# Altium schematic symbol library kmilo17pet-TI_MSP430.SchLib: 1463 symbols (part 4 of 130)
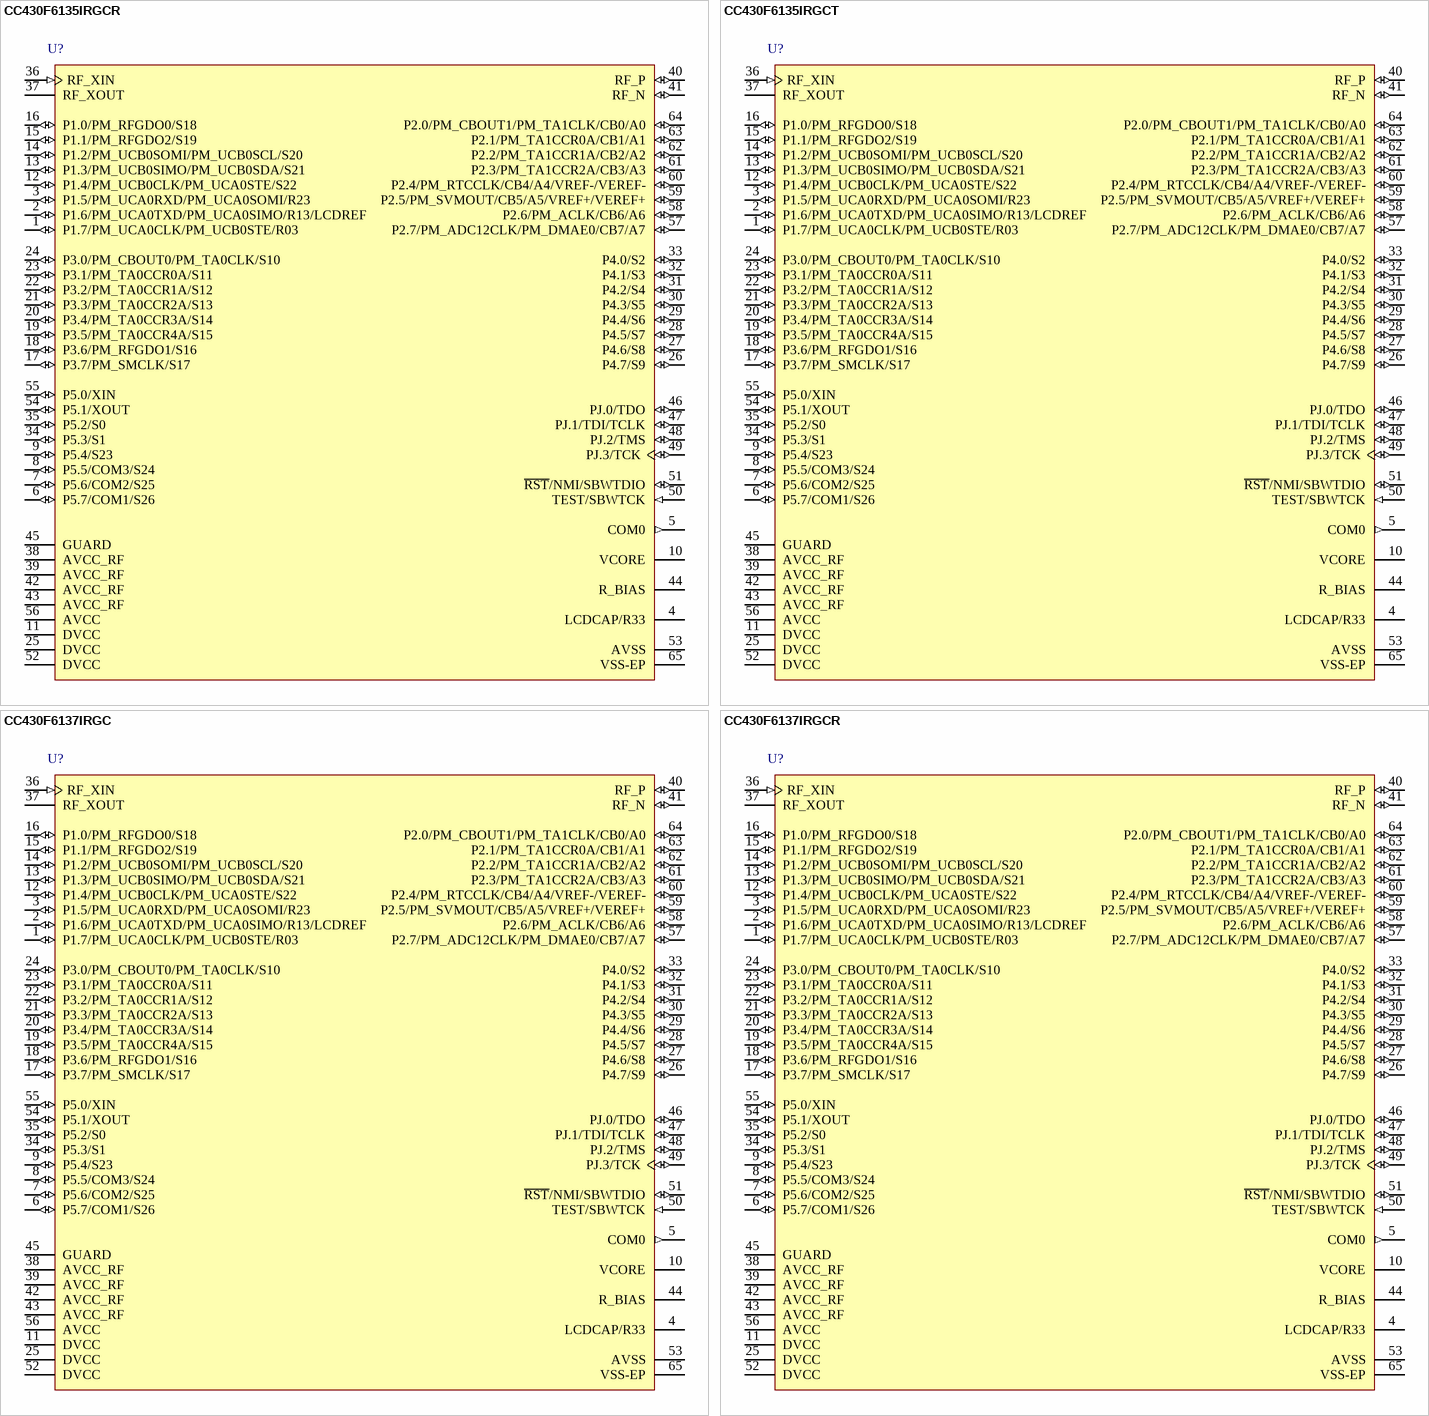
[diagram p338: symbols CC430F6135IRGCR to CC430F6137IRGCR]

## CC430F6137IRGCR
designator U?
20 MHz MSP430 SoC with RF Core with 32 KB Flash, 2048 B SRAM and 44 GPIOs, -40 to 85 degC, 64-pin QFN (RGC), Green (RoHS & no Sb/Br); Manufacturer: Texas Instruments; PartNumber: CC430F6137IRGCR; ADC: Yes; ADC Channels: 8; DMA: 3; Flash(KB): 32; Frequency(MHz): 20; GPIO: 44; LCD Segments: 96; Multiplier: 32x32; SRAM(B): 4096; SubFamily: RF SoC Series; Timers - 16-bit: 2; USCI_A (UART/LIN/IrDA/SPI): 1; DatasheetVersion: SLAS554F; PackageVersion: 4204106/F; PackageReference: RGC64; PackageDescription: 64-Pin Plastic Flat Pack, Body 9 x 9 mm, Pitch 0.5 mm; Supplier 1: Digi-Key; Supplier Part Number 1: 296-25822-2-ND; Supplier 2: Digi-Key; Supplier Part Number 2: 296-25822-1-ND; Supplier 3: Digi-Key; Supplier Part Number 3: 296-25822-6-ND; Supplier 4: Newark; Supplier Part Number 4: 68R5922; Supplier 5: Mouser; Supplier Part Number 5: 595-CC430F6137IRGCR; Brown Out Reset: Yes; Comparators: Yes; Eco-Plan: Green (RoHS & no Sb/Br); Real-Time Clock: Yes; SVS: Yes; Temp Sensor: Yes; USCI_B (I2C & SPI): 1; Watchdog: Yes; Mounting Technology: Surface Mount; ComponentLink1Description: Manufacturer URL; ComponentLink1URL: http://www.ti.com/; ComponentLink2Description: Datasheet; ComponentLink2URL: http://www.ti.com/general/docs/lit/getliterature.tsp?genericPartNumber=CC430F6137&fileType=pdf; ComponentLink3Description: Package Specification; ComponentLink3URL: http://www.ti.com/lit/ds/symlink/ucd3138.pdf
footprint TI-RGC64-4250X4250TP_N (QFN, 64-Leads, Body 9x9mm, Pitch 0.5mm, Thermal Pad 4.25x4.25mm, IPC Medium Density)
pins: 1 P1.7/PM_UCA0CLK/PM_UCB0STE/R03 (io), 2 P1.6/PM_UCA0TXD/PM_UCA0SIMO/R13/LCDREF (io), 3 P1.5/PM_UCA0RXD/PM_UCA0SOMI/R23 (io), 4 LCDCAP/R33, 5 COM0 (out) "LCD common output COM0 for LCD backplane", 6 P5.7/COM1/S26 (io), 7 P5.6/COM2/S25 (io), 8 P5.5/COM3/S24 (io), 9 P5.4/S23 (io), 10 VCORE "Regulated core power supply", 11 DVCC (power) "Digital power supply", 12 P1.4/PM_UCB0CLK/PM_UCA0STE/S22 (io), 13 P1.3/PM_UCB0SIMO/PM_UCB0SDA/S21 (io), 14 P1.2/PM_UCB0SOMI/PM_UCB0SCL/S20 (io), 15 P1.1/PM_RFGDO2/S19 (io), 16 P1.0/PM_RFGDO0/S18 (io), 17 P3.7/PM_SMCLK/S17 (io), 18 P3.6/PM_RFGDO1/S16 (io), 19 P3.5/PM_TA0CCR4A/S15 (io), 20 P3.4/PM_TA0CCR3A/S14 (io), 21 P3.3/PM_TA0CCR2A/S13 (io), 22 P3.2/PM_TA0CCR1A/S12 (io), 23 P3.1/PM_TA0CCR0A/S11 (io), 24 P3.0/PM_CBOUT0/PM_TA0CLK/S10 (io), 25 DVCC (power) "Digital power supply", 26 P4.7/S9 (io), 27 P4.6/S8 (io), 28 P4.5/S7 (io), 29 P4.4/S6 (io), 30 P4.3/S5 (io), 31 P4.2/S4 (io), 32 P4.1/S3 (io), 33 P4.0/S2 (io), 34 P5.3/S1 (io), 35 P5.2/S0 (io), 36 RF_XIN (in) "Input terminal for RF crystal oscillator, or external clock input", 37 RF_XOUT "Output terminal for RF crystal oscillator", 38 AVCC_RF (power) "Radio analog power supply", 39 AVCC_RF (power) "Radio analog power supply", 40 RF_P (io) "Positive RF input to LNA in receive mode Positive RF output from PA in transmit mode", 41 RF_N (io) "Negative RF input to LNA in receive mode Negative RF output from PA in transmit mode", 42 AVCC_RF (power) "Radio analog power supply", 43 AVCC_RF (power) "Radio analog power supply", 44 R_BIAS "External bias resistor for radio reference current", 45 GUARD (power) "Power supply connection for digital noise isolation", 46 PJ.0/TDO (io), 47 PJ.1/TDI/TCLK (io), 48 PJ.2/TMS (io), 49 PJ.3/TCK (io), 50 TEST/SBWTCK (in), 51 ~{RST}/NMI/SBWTDIO (io), 52 DVCC (power) "Digital power supply", 53 AVSS "Analog ground supply for ADC12", 54 P5.1/XOUT (io), 55 P5.0/XIN (io), 56 AVCC (power) "Analog power supply", 57 P2.7/PM_ADC12CLK/PM_DMAE0/CB7/A7 (io), 58 P2.6/PM_ACLK/CB6/A6 (io), 59 P2.5/PM_SVMOUT/CB5/A5/VREF+/VEREF+ (io), 60 P2.4/PM_RTCCLK/CB4/A4/VREF-/VEREF- (io), 61 P2.3/PM_TA1CCR2A/CB3/A3 (io), 62 P2.2/PM_TA1CCR1A/CB2/A2 (io), 63 P2.1/PM_TA1CCR0A/CB1/A1 (io), 64 P2.0/PM_CBOUT1/PM_TA1CLK/CB0/A0 (io), 65 VSS-EP "Ground supply The exposed die attach pad must be connected to a solid ground plane as this is the ground connection for the chip."

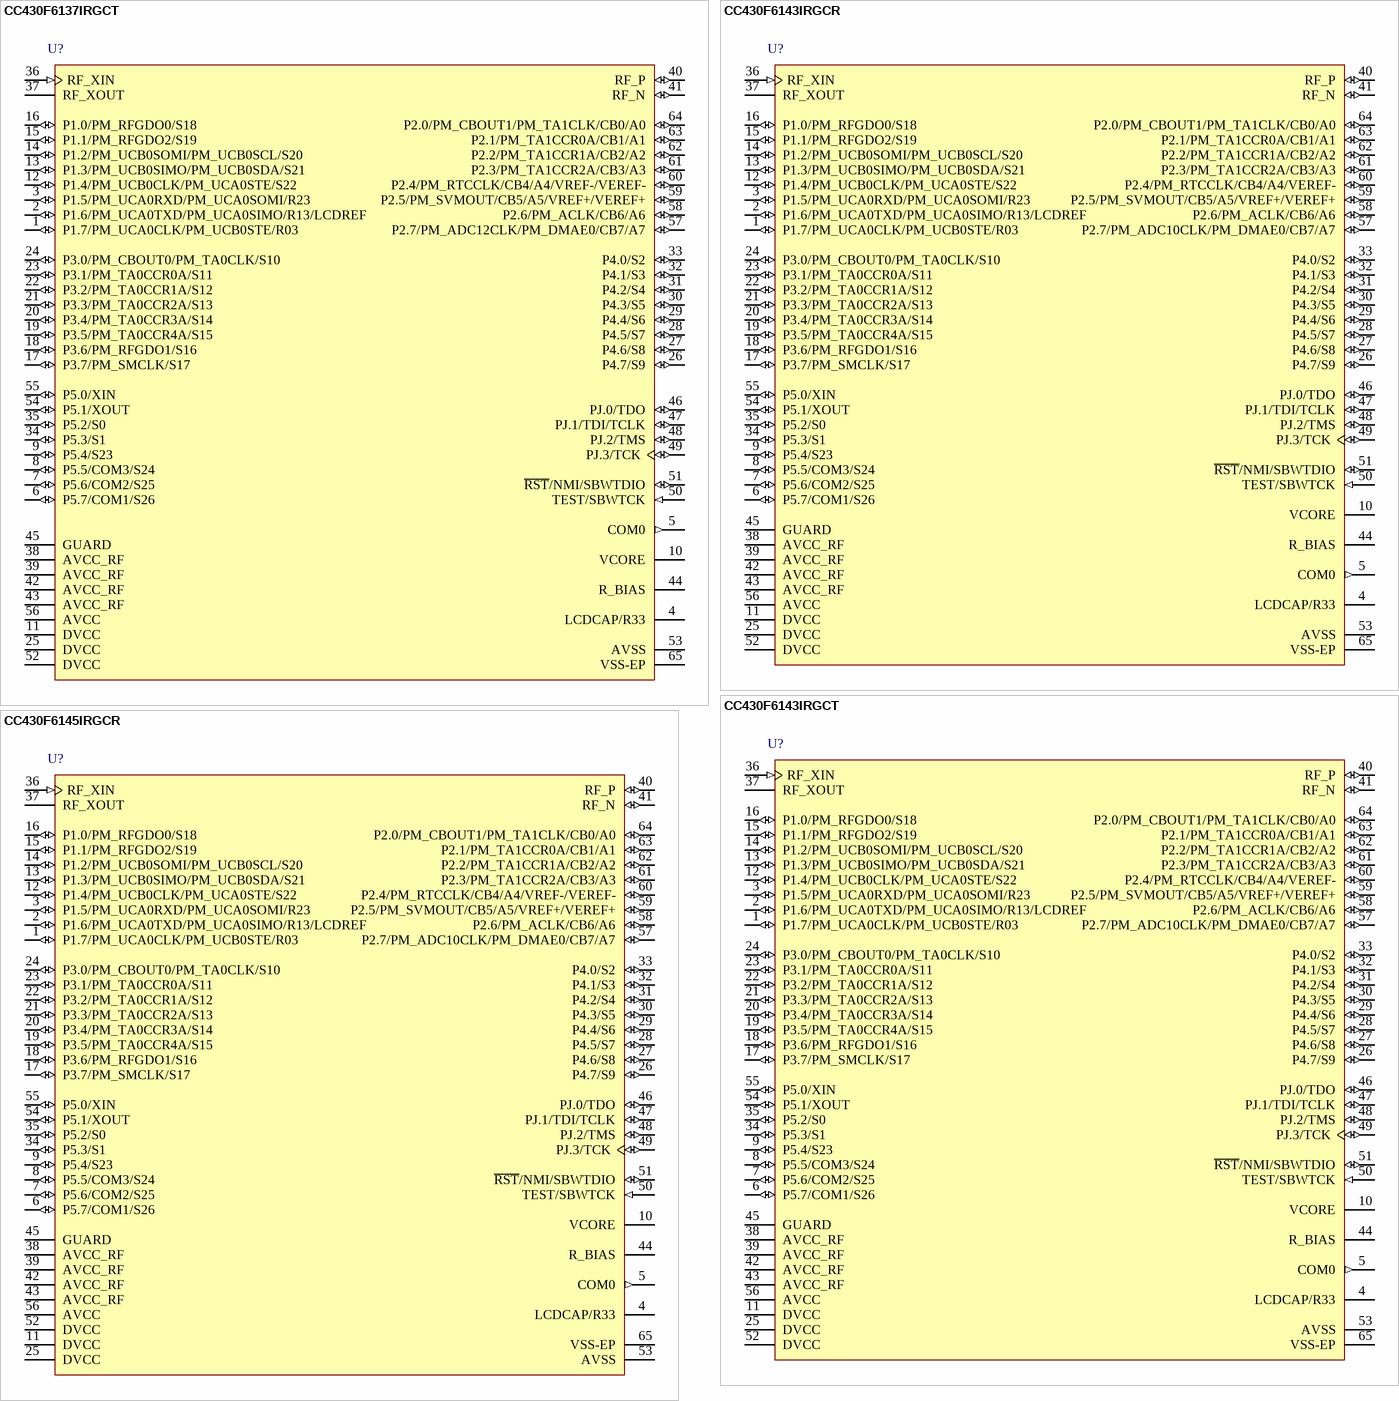
[diagram p8: symbols CC430F6137IRGCT to CC430F6145IRGCR]

## CC430F6137IRGCT
designator U?
20 MHz MSP430 SoC with RF Core with 32 KB Flash, 2048 B SRAM and 44 GPIOs, -40 to 85 degC, 64-pin QFN (RGC), Green (RoHS & no Sb/Br); Manufacturer: Texas Instruments; PartNumber: CC430F6137IRGCT; ADC: Yes; ADC Channels: 8; DMA: 3; Flash(KB): 32; Frequency(MHz): 20; GPIO: 44; LCD Segments: 96; Multiplier: 32x32; SRAM(B): 4096; SubFamily: RF SoC Series; Timers - 16-bit: 2; USCI_A (UART/LIN/IrDA/SPI): 1; DatasheetVersion: SLAS554F; PackageVersion: 4204106/F; PackageReference: RGC64; PackageDescription: 64-Pin Plastic Flat Pack, Body 9 x 9 mm, Pitch 0.5 mm; Supplier 1: Digi-Key; Supplier Part Number 1: 296-25823-2-ND; Supplier 2: Digi-Key; Supplier Part Number 2: 296-25823-1-ND; Supplier 3: Digi-Key; Supplier Part Number 3: 296-25823-6-ND; Supplier 4: Mouser; Supplier Part Number 4: 595-CC430F6137IRGCT; Brown Out Reset: Yes; Comparators: Yes; Eco-Plan: Green (RoHS & no Sb/Br); Real-Time Clock: Yes; SVS: Yes; Temp Sensor: Yes; USCI_B (I2C & SPI): 1; Watchdog: Yes; Mounting Technology: Surface Mount; ComponentLink1Description: Manufacturer URL; ComponentLink1URL: http://www.ti.com/; ComponentLink2Description: Datasheet; ComponentLink2URL: http://www.ti.com/general/docs/lit/getliterature.tsp?genericPartNumber=CC430F6137&fileType=pdf; ComponentLink3Description: Package Specification; ComponentLink3URL: http://www.ti.com/lit/ds/symlink/ucd3138.pdf
footprint TI-RGC64-4250X4250TP_N (QFN, 64-Leads, Body 9x9mm, Pitch 0.5mm, Thermal Pad 4.25x4.25mm, IPC Medium Density)
pins: 1 P1.7/PM_UCA0CLK/PM_UCB0STE/R03 (io), 2 P1.6/PM_UCA0TXD/PM_UCA0SIMO/R13/LCDREF (io), 3 P1.5/PM_UCA0RXD/PM_UCA0SOMI/R23 (io), 4 LCDCAP/R33, 5 COM0 (out) "LCD common output COM0 for LCD backplane", 6 P5.7/COM1/S26 (io), 7 P5.6/COM2/S25 (io), 8 P5.5/COM3/S24 (io), 9 P5.4/S23 (io), 10 VCORE "Regulated core power supply", 11 DVCC (power) "Digital power supply", 12 P1.4/PM_UCB0CLK/PM_UCA0STE/S22 (io), 13 P1.3/PM_UCB0SIMO/PM_UCB0SDA/S21 (io), 14 P1.2/PM_UCB0SOMI/PM_UCB0SCL/S20 (io), 15 P1.1/PM_RFGDO2/S19 (io), 16 P1.0/PM_RFGDO0/S18 (io), 17 P3.7/PM_SMCLK/S17 (io), 18 P3.6/PM_RFGDO1/S16 (io), 19 P3.5/PM_TA0CCR4A/S15 (io), 20 P3.4/PM_TA0CCR3A/S14 (io), 21 P3.3/PM_TA0CCR2A/S13 (io), 22 P3.2/PM_TA0CCR1A/S12 (io), 23 P3.1/PM_TA0CCR0A/S11 (io), 24 P3.0/PM_CBOUT0/PM_TA0CLK/S10 (io), 25 DVCC (power) "Digital power supply", 26 P4.7/S9 (io), 27 P4.6/S8 (io), 28 P4.5/S7 (io), 29 P4.4/S6 (io), 30 P4.3/S5 (io), 31 P4.2/S4 (io), 32 P4.1/S3 (io), 33 P4.0/S2 (io), 34 P5.3/S1 (io), 35 P5.2/S0 (io), 36 RF_XIN (in) "Input terminal for RF crystal oscillator, or external clock input", 37 RF_XOUT "Output terminal for RF crystal oscillator", 38 AVCC_RF (power) "Radio analog power supply", 39 AVCC_RF (power) "Radio analog power supply", 40 RF_P (io) "Positive RF input to LNA in receive mode Positive RF output from PA in transmit mode", 41 RF_N (io) "Negative RF input to LNA in receive mode Negative RF output from PA in transmit mode", 42 AVCC_RF (power) "Radio analog power supply", 43 AVCC_RF (power) "Radio analog power supply", 44 R_BIAS "External bias resistor for radio reference current", 45 GUARD (power) "Power supply connection for digital noise isolation", 46 PJ.0/TDO (io), 47 PJ.1/TDI/TCLK (io), 48 PJ.2/TMS (io), 49 PJ.3/TCK (io), 50 TEST/SBWTCK (in), 51 ~{RST}/NMI/SBWTDIO (io), 52 DVCC (power) "Digital power supply", 53 AVSS "Analog ground supply for ADC12", 54 P5.1/XOUT (io), 55 P5.0/XIN (io), 56 AVCC (power) "Analog power supply", 57 P2.7/PM_ADC12CLK/PM_DMAE0/CB7/A7 (io), 58 P2.6/PM_ACLK/CB6/A6 (io), 59 P2.5/PM_SVMOUT/CB5/A5/VREF+/VEREF+ (io), 60 P2.4/PM_RTCCLK/CB4/A4/VREF-/VEREF- (io), 61 P2.3/PM_TA1CCR2A/CB3/A3 (io), 62 P2.2/PM_TA1CCR1A/CB2/A2 (io), 63 P2.1/PM_TA1CCR0A/CB1/A1 (io), 64 P2.0/PM_CBOUT1/PM_TA1CLK/CB0/A0 (io), 65 VSS-EP "Ground supply The exposed die attach pad must be connected to a solid ground plane as this is the ground connection for the chip."

## CC430F6143IRGCR
designator U?
20 MHz MSP430 SoC with RF Core with 8 KB Flash, 2048 B SRAM and 44 GPIOs, -40 to 85 degC, 64-pin QFN (RGZ), Green (RoHS & no Sb/Br); Manufacturer: Texas Instruments; PartNumber: CC430F6143IRGCR; ADC: Yes; ADC Channels: 8; DMA: 3; Frequency(MHz): 20; GPIO: 44; LCD Segments: 96; Multiplier: 32x32; SRAM(B): 2048; SubFamily: RF SoC Series; Timers - 16-bit: 2; USCI_A (UART/LIN/IrDA/SPI): 1; DatasheetVersion: SLAS555; PackageVersion: 4204106/F; PackageReference: RGC64; PackageDescription: 64-Pin Plastic Flat Pack, Body 9 x 9 mm, Pitch 0.5 mm; Supplier 1: Digi-Key; Supplier Part Number 1: CC430F6143IRGCR-ND; Supplier 2: Newark; Supplier Part Number 2: 27W9346; Supplier 3: Mouser; Supplier Part Number 3: 595-CC430F6143IRGCR; Brown Out Reset: Yes; Comparators: Yes; Eco-Plan: Green (RoHS & no Sb/Br); Flash(KB): 8; Real-Time Clock: Yes; SVS: Yes; Temp Sensor: Yes; USCI_B (I2C & SPI): 1; Watchdog: Yes; Mounting Technology: Surface Mount; ComponentLink1Description: Manufacturer URL; ComponentLink1URL: http://www.ti.com/; ComponentLink2Description: Datasheet; ComponentLink2URL: http://www.ti.com/lit/ds/symlink/cc430f6143.pdf; ComponentLink3Description: Package Specification; ComponentLink3URL: http://www.ti.com/lit/ds/symlink/ucd3138.pdf
footprint TI-RGC64-4250X4250TP_N (QFN, 64-Leads, Body 9x9mm, Pitch 0.5mm, Thermal Pad 4.25x4.25mm, IPC Medium Density)
pins: 1 P1.7/PM_UCA0CLK/PM_UCB0STE/R03 (io), 2 P1.6/PM_UCA0TXD/PM_UCA0SIMO/R13/LCDREF (io), 3 P1.5/PM_UCA0RXD/PM_UCA0SOMI/R23 (io), 4 LCDCAP/R33, 5 COM0 (out) "LCD common output COM0 for LCD backplane", 6 P5.7/COM1/S26 (io), 7 P5.6/COM2/S25 (io), 8 P5.5/COM3/S24 (io), 9 P5.4/S23 (io), 10 VCORE "Regulated core power supply", 11 DVCC (power) "Digital power supply", 12 P1.4/PM_UCB0CLK/PM_UCA0STE/S22 (io), 13 P1.3/PM_UCB0SIMO/PM_UCB0SDA/S21 (io), 14 P1.2/PM_UCB0SOMI/PM_UCB0SCL/S20 (io), 15 P1.1/PM_RFGDO2/S19 (io), 16 P1.0/PM_RFGDO0/S18 (io), 17 P3.7/PM_SMCLK/S17 (io), 18 P3.6/PM_RFGDO1/S16 (io), 19 P3.5/PM_TA0CCR4A/S15 (io), 20 P3.4/PM_TA0CCR3A/S14 (io), 21 P3.3/PM_TA0CCR2A/S13 (io), 22 P3.2/PM_TA0CCR1A/S12 (io), 23 P3.1/PM_TA0CCR0A/S11 (io), 24 P3.0/PM_CBOUT0/PM_TA0CLK/S10 (io), 25 DVCC (power) "Digital power supply", 26 P4.7/S9 (io), 27 P4.6/S8 (io), 28 P4.5/S7 (io), 29 P4.4/S6 (io), 30 P4.3/S5 (io), 31 P4.2/S4 (io), 32 P4.1/S3 (io), 33 P4.0/S2 (io), 34 P5.3/S1 (io), 35 P5.2/S0 (io), 36 RF_XIN (in) "Input terminal for RF crystal oscillator or external clock input", 37 RF_XOUT "Output terminal for RF crystal oscillator", 38 AVCC_RF (power) "Radio analog power supply", 39 AVCC_RF (power) "Radio analog power supply", 40 RF_P (io) "Positive RF input to LNA in receive mode.Positive RF output from PA in transmit mode.", 41 RF_N (io) "Negative RF input to LNA in receive mode.Negative RF output from PA in transmit mode.", 42 AVCC_RF (power) "Radio analog power supply", 43 AVCC_RF (power) "Radio analog power supply", 44 R_BIAS "External bias resistor for radio reference current", 45 GUARD (power) "Power supply connection for digital noise isolation", 46 PJ.0/TDO (io), 47 PJ.1/TDI/TCLK (io), 48 PJ.2/TMS (io), 49 PJ.3/TCK (io), 50 TEST/SBWTCK (in), 51 ~{RST}/NMI/SBWTDIO (io), 52 DVCC (power) "Digital power supply", 53 AVSS "Analog ground supply for ADC10", 54 P5.1/XOUT (io), 55 P5.0/XIN (io), 56 AVCC (power) "Analog power supply", 57 P2.7/PM_ADC10CLK/PM_DMAE0/CB7/A7 (io), 58 P2.6/PM_ACLK/CB6/A6 (io), 59 P2.5/PM_SVMOUT/CB5/A5/VREF+/VEREF+ (io), 60 P2.4/PM_RTCCLK/CB4/A4/VEREF- (io), 61 P2.3/PM_TA1CCR2A/CB3/A3 (io), 62 P2.2/PM_TA1CCR1A/CB2/A2 (io), 63 P2.1/PM_TA1CCR0A/CB1/A1 (io), 64 P2.0/PM_CBOUT1/PM_TA1CLK/CB0/A0 (io), 65 VSS-EP "Ground supply.The exposed die attach pad must be connected to a solid ground plane as this is the ground connection for the chip."

## CC430F6143IRGCT
designator U?
20 MHz MSP430 SoC with RF Core with 8 KB Flash, 2048 B SRAM and 44 GPIOs, -40 to 85 degC, 64-pin QFN (RGZ), Green (RoHS & no Sb/Br); Manufacturer: Texas Instruments; PartNumber: CC430F6143IRGCT; ADC: Yes; ADC Channels: 8; DMA: 3; Frequency(MHz): 20; GPIO: 44; LCD Segments: 96; Multiplier: 32x32; SRAM(B): 2048; SubFamily: RF SoC Series; Timers - 16-bit: 2; USCI_A (UART/LIN/IrDA/SPI): 1; DatasheetVersion: SLAS555; PackageVersion: 4204106/F; PackageReference: RGC64; PackageDescription: 64-Pin Plastic Flat Pack, Body 9 x 9 mm, Pitch 0.5 mm; Supplier 1: Digi-Key; Supplier Part Number 1: CC430F6143IRGCT-ND; Supplier 2: Newark; Supplier Part Number 2: 27W9347; Supplier 3: Mouser; Supplier Part Number 3: 595-CC430F6143IRGCT; Brown Out Reset: Yes; Comparators: Yes; Eco-Plan: Green (RoHS & no Sb/Br); Flash(KB): 8; Real-Time Clock: Yes; SVS: Yes; Temp Sensor: Yes; USCI_B (I2C & SPI): 1; Watchdog: Yes; Mounting Technology: Surface Mount; ComponentLink1Description: Manufacturer URL; ComponentLink1URL: http://www.ti.com/; ComponentLink2Description: Datasheet; ComponentLink2URL: http://www.ti.com/lit/ds/symlink/cc430f6143.pdf; ComponentLink3Description: Package Specification; ComponentLink3URL: http://www.ti.com/lit/ds/symlink/ucd3138.pdf
footprint TI-RGC64-4250X4250TP_N (QFN, 64-Leads, Body 9x9mm, Pitch 0.5mm, Thermal Pad 4.25x4.25mm, IPC Medium Density)
pins: 1 P1.7/PM_UCA0CLK/PM_UCB0STE/R03 (io), 2 P1.6/PM_UCA0TXD/PM_UCA0SIMO/R13/LCDREF (io), 3 P1.5/PM_UCA0RXD/PM_UCA0SOMI/R23 (io), 4 LCDCAP/R33, 5 COM0 (out) "LCD common output COM0 for LCD backplane", 6 P5.7/COM1/S26 (io), 7 P5.6/COM2/S25 (io), 8 P5.5/COM3/S24 (io), 9 P5.4/S23 (io), 10 VCORE "Regulated core power supply", 11 DVCC (power) "Digital power supply", 12 P1.4/PM_UCB0CLK/PM_UCA0STE/S22 (io), 13 P1.3/PM_UCB0SIMO/PM_UCB0SDA/S21 (io), 14 P1.2/PM_UCB0SOMI/PM_UCB0SCL/S20 (io), 15 P1.1/PM_RFGDO2/S19 (io), 16 P1.0/PM_RFGDO0/S18 (io), 17 P3.7/PM_SMCLK/S17 (io), 18 P3.6/PM_RFGDO1/S16 (io), 19 P3.5/PM_TA0CCR4A/S15 (io), 20 P3.4/PM_TA0CCR3A/S14 (io), 21 P3.3/PM_TA0CCR2A/S13 (io), 22 P3.2/PM_TA0CCR1A/S12 (io), 23 P3.1/PM_TA0CCR0A/S11 (io), 24 P3.0/PM_CBOUT0/PM_TA0CLK/S10 (io), 25 DVCC (power) "Digital power supply", 26 P4.7/S9 (io), 27 P4.6/S8 (io), 28 P4.5/S7 (io), 29 P4.4/S6 (io), 30 P4.3/S5 (io), 31 P4.2/S4 (io), 32 P4.1/S3 (io), 33 P4.0/S2 (io), 34 P5.3/S1 (io), 35 P5.2/S0 (io), 36 RF_XIN (in) "Input terminal for RF crystal oscillator or external clock input", 37 RF_XOUT "Output terminal for RF crystal oscillator", 38 AVCC_RF (power) "Radio analog power supply", 39 AVCC_RF (power) "Radio analog power supply", 40 RF_P (io) "Positive RF input to LNA in receive mode.Positive RF output from PA in transmit mode.", 41 RF_N (io) "Negative RF input to LNA in receive mode.Negative RF output from PA in transmit mode.", 42 AVCC_RF (power) "Radio analog power supply", 43 AVCC_RF (power) "Radio analog power supply", 44 R_BIAS "External bias resistor for radio reference current", 45 GUARD (power) "Power supply connection for digital noise isolation", 46 PJ.0/TDO (io), 47 PJ.1/TDI/TCLK (io), 48 PJ.2/TMS (io), 49 PJ.3/TCK (io), 50 TEST/SBWTCK (in), 51 ~{RST}/NMI/SBWTDIO (io), 52 DVCC (power) "Digital power supply", 53 AVSS "Analog ground supply for ADC10", 54 P5.1/XOUT (io), 55 P5.0/XIN (io), 56 AVCC (power) "Analog power supply", 57 P2.7/PM_ADC10CLK/PM_DMAE0/CB7/A7 (io), 58 P2.6/PM_ACLK/CB6/A6 (io), 59 P2.5/PM_SVMOUT/CB5/A5/VREF+/VEREF+ (io), 60 P2.4/PM_RTCCLK/CB4/A4/VEREF- (io), 61 P2.3/PM_TA1CCR2A/CB3/A3 (io), 62 P2.2/PM_TA1CCR1A/CB2/A2 (io), 63 P2.1/PM_TA1CCR0A/CB1/A1 (io), 64 P2.0/PM_CBOUT1/PM_TA1CLK/CB0/A0 (io), 65 VSS-EP "Ground supply.The exposed die attach pad must be connected to a solid ground plane as this is the ground connection for the chip."

## CC430F6145IRGCR
designator U?
20 MHz MSP430 SoC with RF Core with 16 KB Flash, 2048 B SRAM and 44 GPIOs, -40 to 85 degC, 64-pin QFN (RGZ), Green (RoHS & no Sb/Br); Manufacturer: Texas Instruments; PartNumber: CC430F6145IRGCR; ADC: Yes; ADC Channels: 8; DMA: 3; Flash(KB): 16; Frequency(MHz): 20; GPIO: 44; LCD Segments: 96; Multiplier: 32x32; SRAM(B): 2048; SubFamily: RF SoC Series; Timers - 16-bit: 2; USCI_A (UART/LIN/IrDA/SPI): 1; DatasheetVersion: SLAS555; PackageVersion: 4204106/F; PackageReference: RGC64; PackageDescription: 64-Pin Plastic Flat Pack, Body 9 x 9 mm, Pitch 0.5 mm; Supplier 1: Digi-Key; Supplier Part Number 1: CC430F6145IRGCR-ND; Supplier 2: Newark; Supplier Part Number 2: 27W9348; Supplier 3: Mouser; Supplier Part Number 3: 595-CC430F6145IRGCR; Brown Out Reset: Yes; Comparators: Yes; Eco-Plan: Green (RoHS & no Sb/Br); Real-Time Clock: Yes; SVS: Yes; Temp Sensor: Yes; USCI_B (I2C & SPI): 1; Watchdog: Yes; Mounting Technology: Surface Mount; ComponentLink1Description: Manufacturer URL; ComponentLink1URL: http://www.ti.com/; ComponentLink2Description: Datasheet; ComponentLink2URL: http://www.ti.com/lit/ds/symlink/cc430f6145.pdf; ComponentLink3Description: Package Specification; ComponentLink3URL: http://www.ti.com/lit/ds/symlink/ucd3138.pdf
footprint TI-RGC64-4250X4250TP_N (QFN, 64-Leads, Body 9x9mm, Pitch 0.5mm, Thermal Pad 4.25x4.25mm, IPC Medium Density)
pins: 1 P1.7/PM_UCA0CLK/PM_UCB0STE/R03 (io), 2 P1.6/PM_UCA0TXD/PM_UCA0SIMO/R13/LCDREF (io), 3 P1.5/PM_UCA0RXD/PM_UCA0SOMI/R23 (io), 4 LCDCAP/R33, 5 COM0 (out) "LCD common output COM0 for LCD backplane", 6 P5.7/COM1/S26 (io), 7 P5.6/COM2/S25 (io), 8 P5.5/COM3/S24 (io), 9 P5.4/S23 (io), 10 VCORE "Regulated core power supply", 11 DVCC (power) "Digital power supply", 12 P1.4/PM_UCB0CLK/PM_UCA0STE/S22 (io), 13 P1.3/PM_UCB0SIMO/PM_UCB0SDA/S21 (io), 14 P1.2/PM_UCB0SOMI/PM_UCB0SCL/S20 (io), 15 P1.1/PM_RFGDO2/S19 (io), 16 P1.0/PM_RFGDO0/S18 (io), 17 P3.7/PM_SMCLK/S17 (io), 18 P3.6/PM_RFGDO1/S16 (io), 19 P3.5/PM_TA0CCR4A/S15 (io), 20 P3.4/PM_TA0CCR3A/S14 (io), 21 P3.3/PM_TA0CCR2A/S13 (io), 22 P3.2/PM_TA0CCR1A/S12 (io), 23 P3.1/PM_TA0CCR0A/S11 (io), 24 P3.0/PM_CBOUT0/PM_TA0CLK/S10 (io), 25 DVCC (power) "Digital power supply", 26 P4.7/S9 (io), 27 P4.6/S8 (io), 28 P4.5/S7 (io), 29 P4.4/S6 (io), 30 P4.3/S5 (io), 31 P4.2/S4 (io), 32 P4.1/S3 (io), 33 P4.0/S2 (io), 34 P5.3/S1 (io), 35 P5.2/S0 (io), 36 RF_XIN (in) "Input terminal for RF crystal oscillator, or external clock input", 37 RF_XOUT "Output terminal for RF crystal oscillator", 38 AVCC_RF (power) "Radio analog power supply", 39 AVCC_RF (power) "Radio analog power supply", 40 RF_P (io) "Positive RF input to LNA in receive mode Positive RF output from PA in transmit mode", 41 RF_N (io) "Negative RF input to LNA in receive mode Negative RF output from PA in transmit mode", 42 AVCC_RF (power) "Radio analog power supply", 43 AVCC_RF (power) "Radio analog power supply", 44 R_BIAS "External bias resistor for radio reference current", 45 GUARD (power) "Power supply connection for digital noise isolation", 46 PJ.0/TDO (io), 47 PJ.1/TDI/TCLK (io), 48 PJ.2/TMS (io), 49 PJ.3/TCK (io), 50 TEST/SBWTCK (in), 51 ~{RST}/NMI/SBWTDIO (io), 52 DVCC (power) "Digital power supply", 53 AVSS "Analog ground supply for ADC12", 54 P5.1/XOUT (io), 55 P5.0/XIN (io), 56 AVCC (power) "Analog power supply", 57 P2.7/PM_ADC10CLK/PM_DMAE0/CB7/A7 (io), 58 P2.6/PM_ACLK/CB6/A6 (io), 59 P2.5/PM_SVMOUT/CB5/A5/VREF+/VEREF+ (io), 60 P2.4/PM_RTCCLK/CB4/A4/VREF-/VEREF- (io), 61 P2.3/PM_TA1CCR2A/CB3/A3 (io), 62 P2.2/PM_TA1CCR1A/CB2/A2 (io), 63 P2.1/PM_TA1CCR0A/CB1/A1 (io), 64 P2.0/PM_CBOUT1/PM_TA1CLK/CB0/A0 (io), 65 VSS-EP "Ground supply The exposed die attach pad must be connected to a solid ground plane as this is the ground connection for the chip."

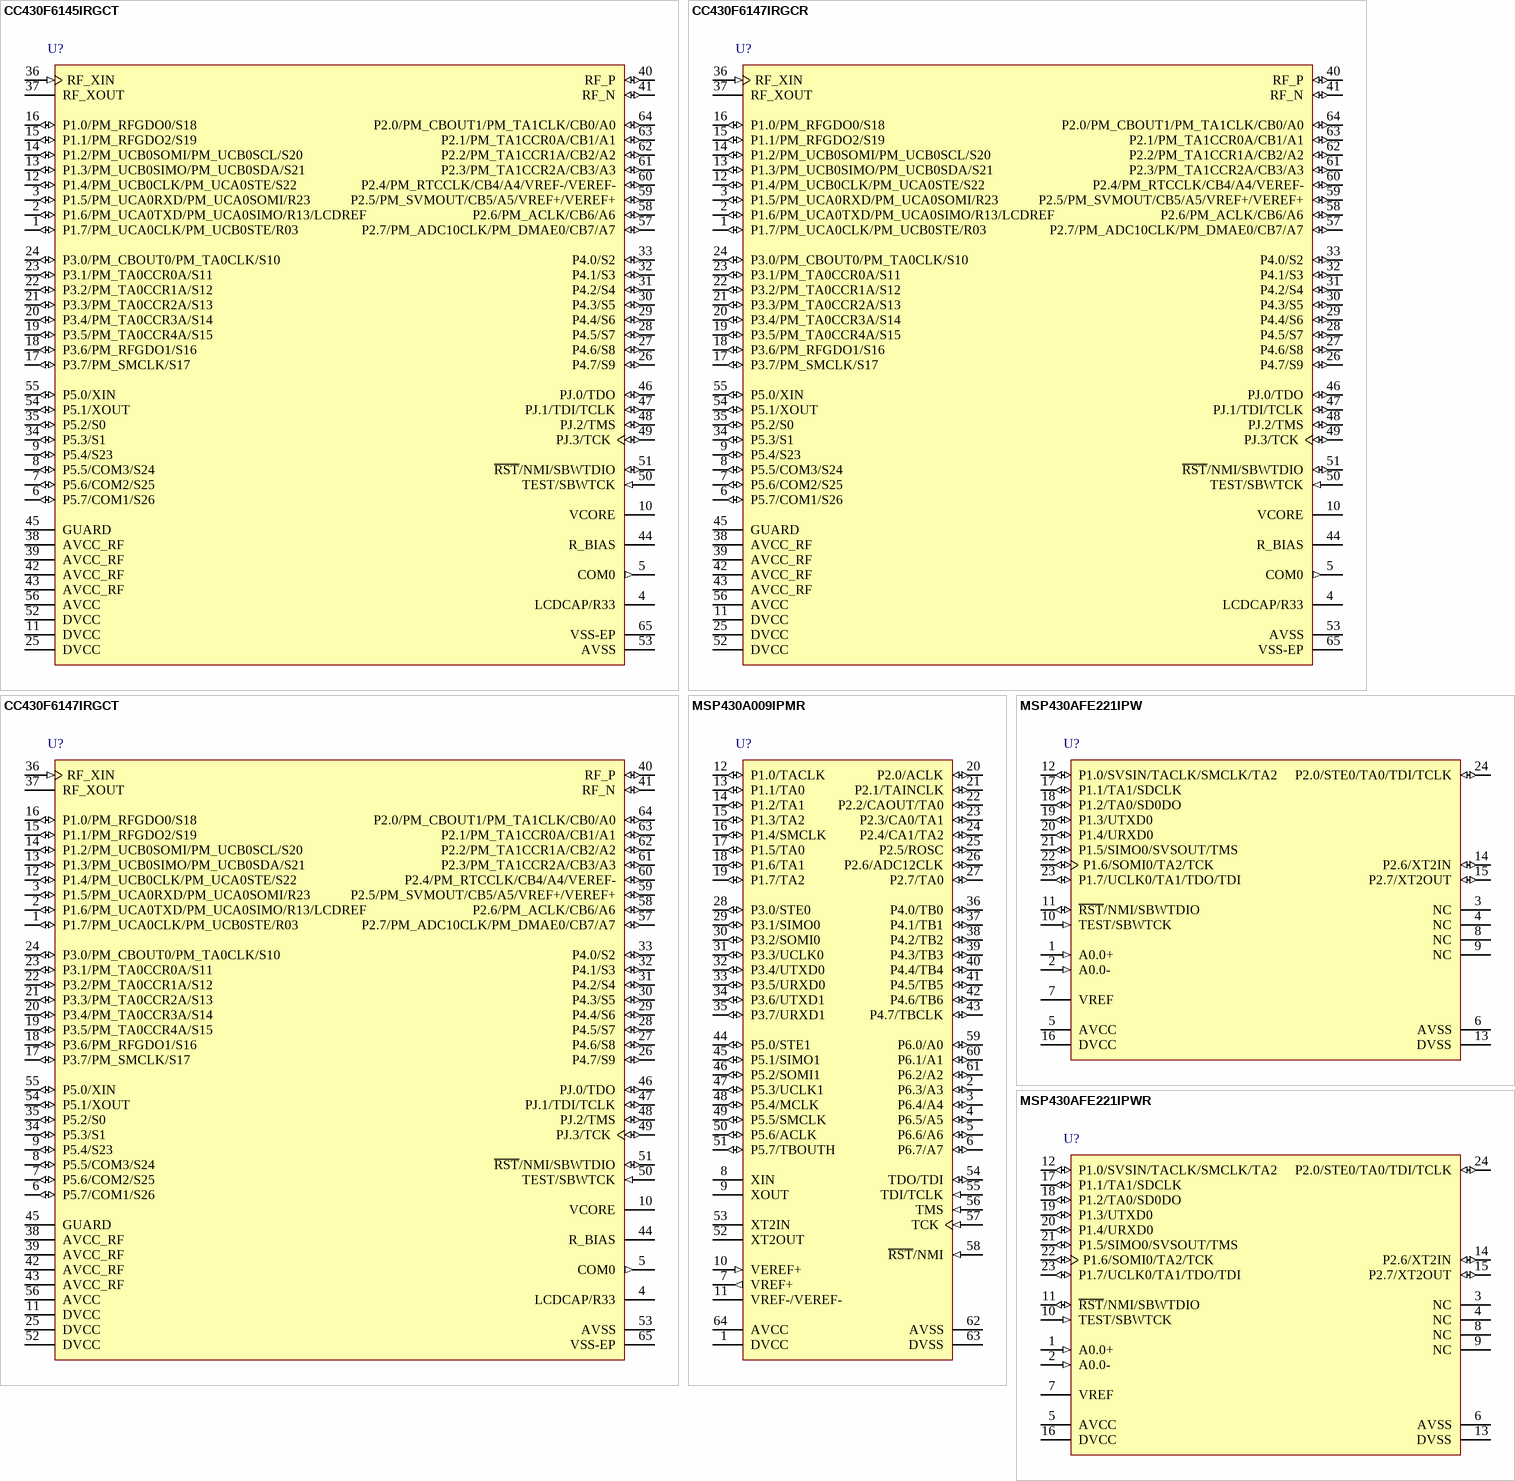
[diagram p9: symbols CC430F6145IRGCT to MSP430AFE221IPWR]